# Altium footprint library PTS645 - Button.PcbLib: 1 footprints
Each footprint in its own frame and in the unit in brackets; x right, y up, seen from the top. Pads: shape width x height; smd on the part's side, far side on the other; paste and mask are expansions set on the pad; w line width, h text height; cw(c..) or ccw(c..) is an arc to the next point about the centre after c.
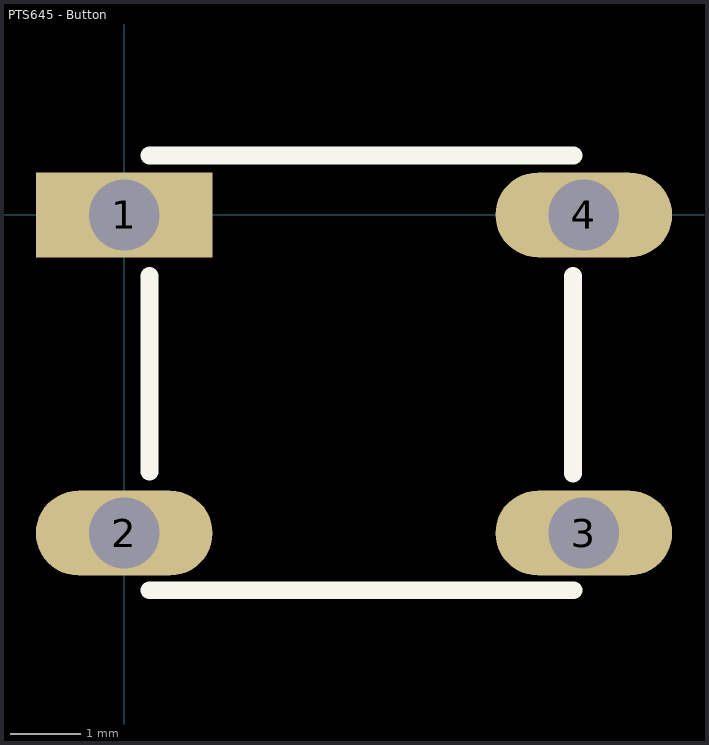
[diagram p0: the footprint, top view; thin cyan lines are the x and y axes]

## PTS645 - Button [mm]
pads (4):
  rect 2.5x1.2 hole 1: 1(0,0)
  oval 2.5x1.2 hole 1: 2(0,-4.5) 3(6.5,-4.5) 4(6.5,0)
Top Overlay:
  lines w0.254: 0.356,-5.309 6.355,-5.309 ; 0.356,-3.632 0.356,-0.864 ; 0.356,0.838 6.355,0.838 ; 6.35,-3.658 6.35,-0.864